# Altium schematic symbol library RKJXV1224005.SchLib: 1 symbol
Pins are listed as number, name and electrical type; pins without a type are passive.

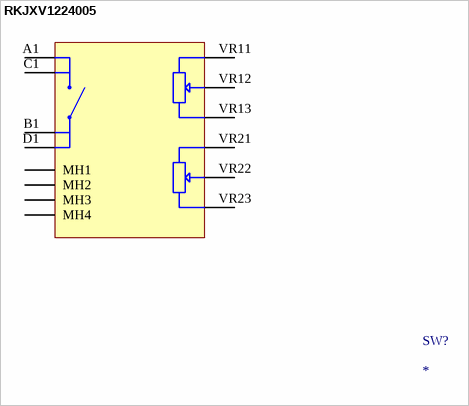
[diagram p0: symbol RKJXV1224005]

## RKJXV1224005
designator SW?
pins: A1, B1, C1, D1, MH1, MH2, MH3, MH4, VR11, VR12, VR13, VR21, VR22, VR23